# Altium integrated library rf_transceivers.IntLib: 1 symbol
Pins are listed as number, name and electrical type; pins without a type are passive.

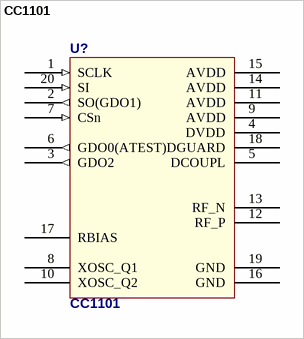
[diagram p0: symbol CC1101]

## CC1101
designator U?
Low-Power Sub-1 GHz RF Transceiver
footprint QFN20 (QFN, 20-Leads, Body 4,2x4,2mm (max), Pitch 0,50mm, IPC Medium Density)
pins: 1 SCLK (in), 2 SO(GDO1) (out), 3 GDO2 (out), 4 DVDD, 5 DCOUPL, 6 GDO0(ATEST) (out), 7 CSn (in), 8 XOSC_Q1, 9 AVDD, 10 XOSC_Q2, 11 AVDD, 12 RF_P, 13 RF_N, 14 AVDD, 15 AVDD, 16 GND, 17 RBIAS, 18 DGUARD, 19 GND, 20 SI (in), 21 GND hidden to GND